# Altium schematic symbol library LVDS389.SchLib: 1 symbol
Pins are listed as number, name and electrical type; pins without a type are passive.

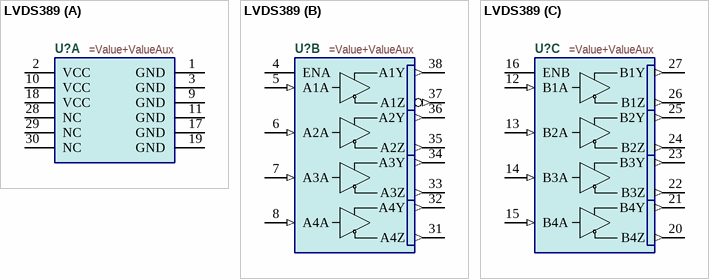
[diagram p0: symbol LVDS389]

## LVDS389
designator U?
=Description
part A pins: 1 GND (power), 2 VCC (power), 3 GND (power), 9 GND (power), 10 VCC (power), 11 GND (power), 17 GND (power), 18 VCC (power), 19 GND (power), 28 NC, 29 NC, 30 NC
part B pins: 4 ENA, 5 A1A (in), 6 A2A (in), 7 A3A (in), 8 A4A (in), 31 A4Z (out), 32 A4Y (out), 33 A3Z (out), 34 A3Y (out), 35 A2Z (out), 36 A2Y (out), 37 A1Z (out), 38 A1Y (out)
part C pins: 12 B1A (in), 13 B2A (in), 14 B3A (in), 15 B4A (in), 16 ENB, 20 B4Z (out), 21 B4Y (out), 22 B3Z (out), 23 B3Y (out), 24 B2Z (out), 25 B2Y (out), 26 B1Z (out), 27 B1Y (out)